# Altium footprint library H48C.PCBLIB: 1 footprints
Each footprint in its own frame and in the unit in brackets; x right, y up, seen from the top. Pads: shape width x height; smd on the part's side, far side on the other; paste and mask are expansions set on the pad; w line width, h text height; cw(c..) or ccw(c..) is an arc to the next point about the centre after c.
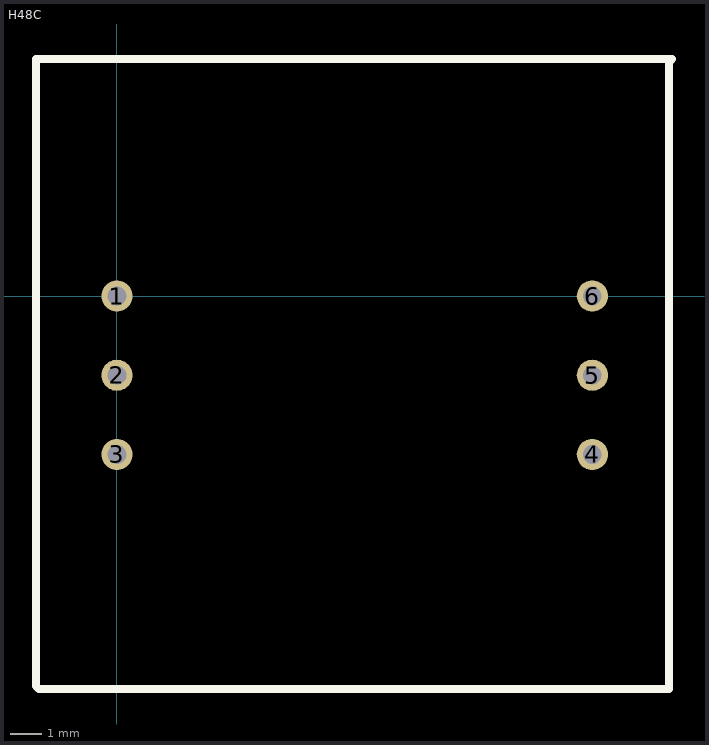
[diagram p0: the footprint, top view; thin cyan lines are the x and y axes]

## H48C [mm] "Hitachi H48C 3Axis Accelerometer"
height 3
pads (6):
  round 1 hole 0.599: 1(0,0) 2(0,-2.54) 3(0,-5.08) 4(15.24,-5.08) 5(15.24,-2.54) 6(15.24,0)
Top Overlay:
  lines w0.254: -2.6,-12.5 -2.6,7.6 17.8,7.6 17.7,7.5 17.7,-12.6 -2.5,-12.6 -2.6,-12.5